# Altium footprint library GXHT11.PcbLib: 1 footprints
Each footprint in its own frame and in the unit in brackets; x right, y up, seen from the top. Pads: shape width x height; smd on the part's side, far side on the other; paste and mask are expansions set on the pad; w line width, h text height; cw(c..) or ccw(c..) is an arc to the next point about the centre after c.
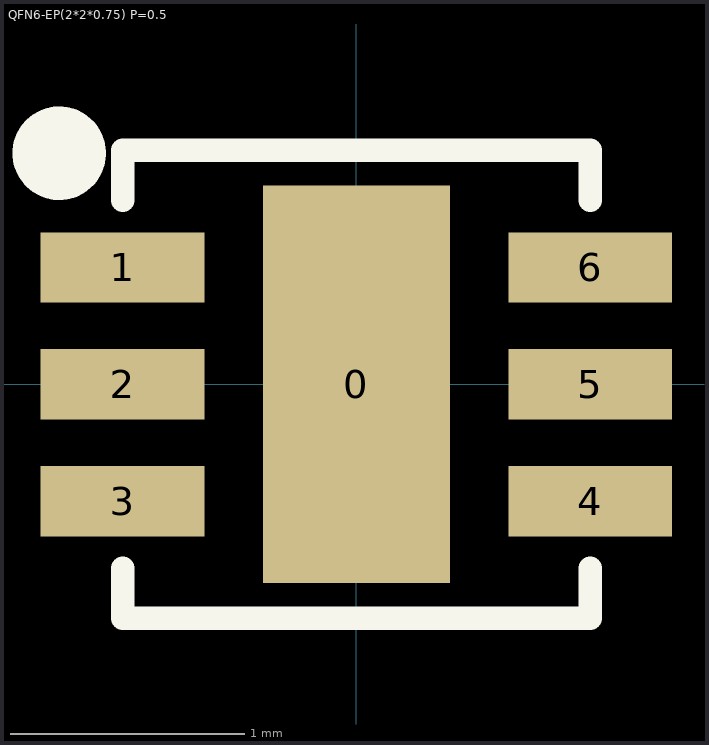
[diagram p0: the footprint, top view; thin cyan lines are the x and y axes]

## QFN6-EP(2*2*0.75) P=0.5 [mm]
pads (7):
  rect 0.8x1.7 smd: 0(0,0)
  rect 0.7x0.3 smd: 1(-1,0.5) 2(-1,0) 3(-1,-0.5) 4(1,-0.5) 5(1,0) 6(1,0.5)
Top Overlay:
  circle w0.2: c-1.271,0.988 r0.1
  lines w0.1: -1,-0.787 -1,-1 1,-1 1,-0.787 ; -1,0.787 -1,1 1,1 1,0.787
3D body "DFN6.STEP": height 0.81, standoff 0, extent -1.035,-1.041 0.985,0.959